# Altium footprint library DANCE_LIB_REV2.PcbLib: 146 footprints (part 6 of 10)
Each footprint in its own frame and in the unit in brackets; x right, y up, seen from the top. Pads: shape width x height; smd on the part's side, far side on the other; paste and mask are expansions set on the pad; w line width, h text height; cw(c..) or ccw(c..) is an arc to the next point about the centre after c.
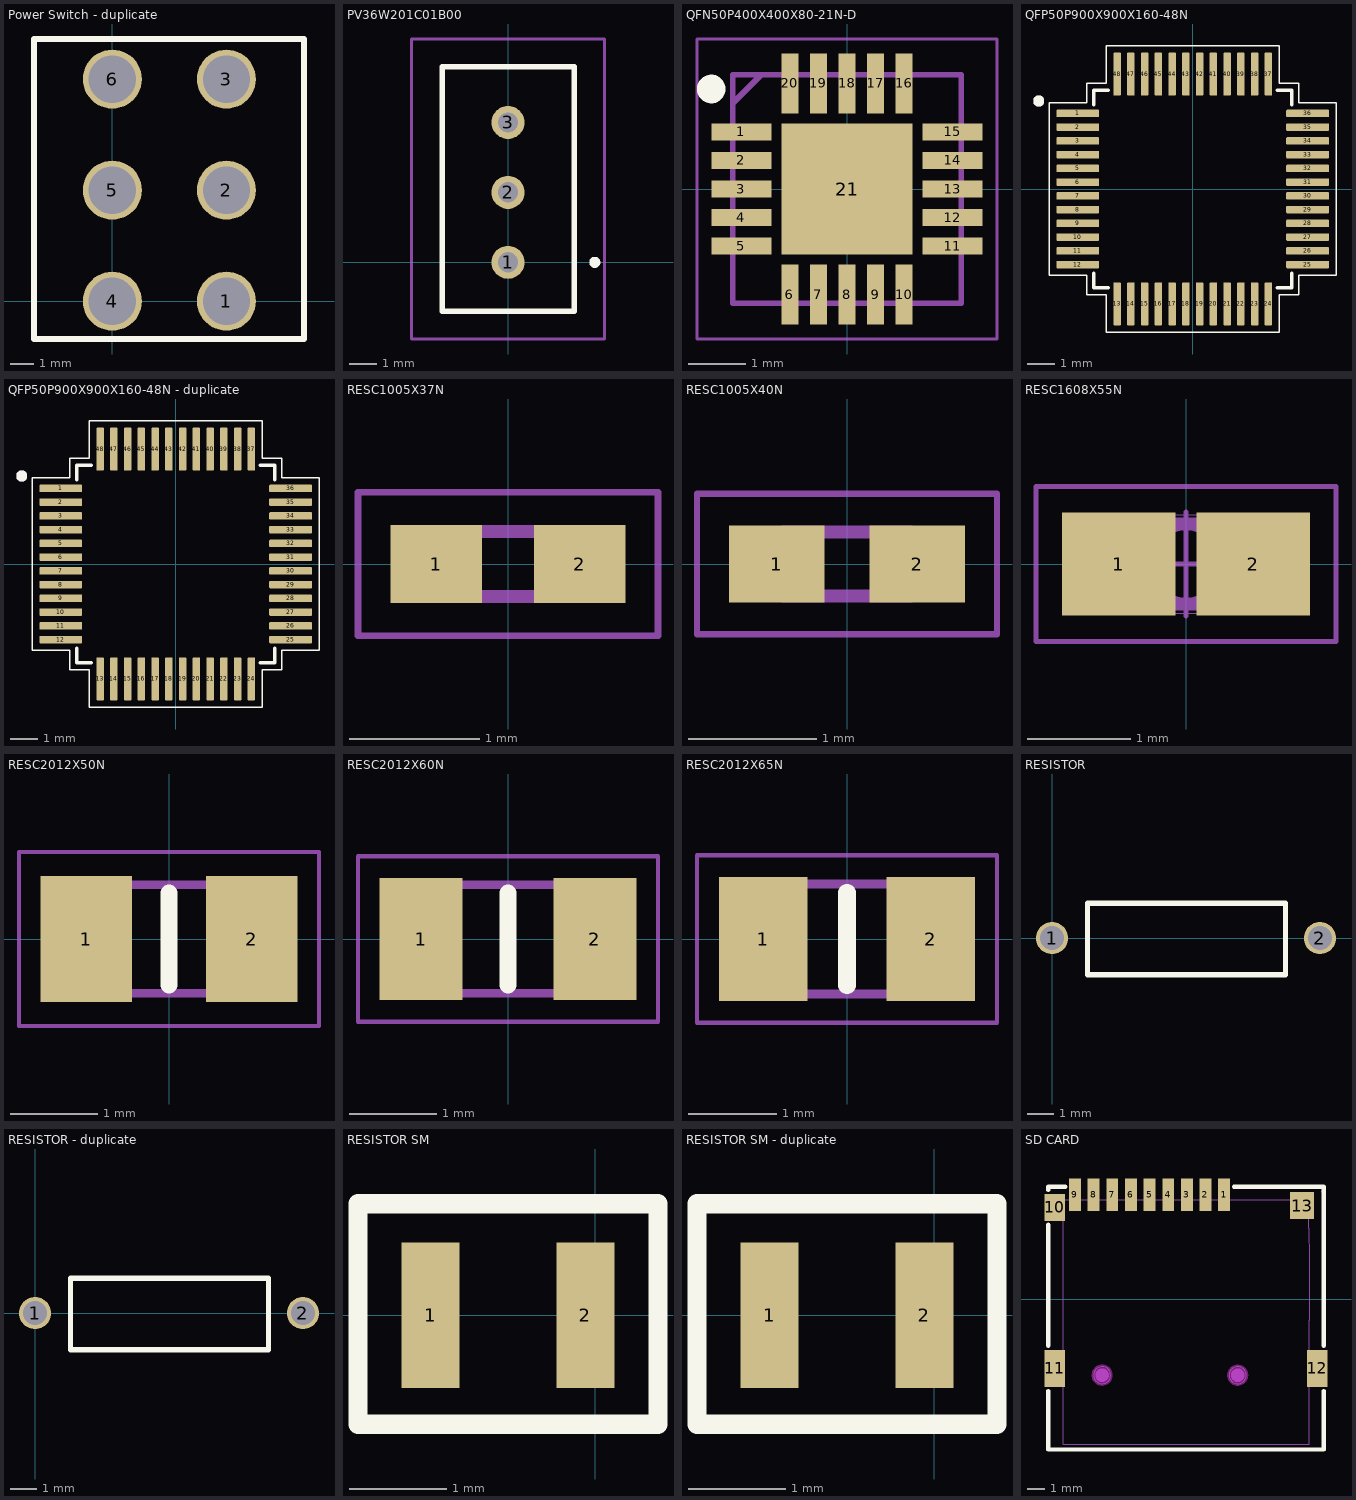
[diagram p5: the footprints below, top view; thin cyan lines are the x and y axes]

## Power Switch - duplicate [mm]
pads (6):
  round 2.5 hole 2: 1(4.83,0) 2(4.83,4.7) 3(4.83,9.4) 4(0,0) 5(0,4.7) 6(0,9.4)
Top Overlay:
  lines w0.254: -3.315,-1.6 -3.315,11.1 8.115,11.1 8.115,-1.6 -3.315,-1.6

## PV36W201C01B00 [mm]
pads (3):
  round 1.2 hole 0.74: 1(0,0) 2(0,2.54) 3(0,5.08)
Top Overlay:
  lines w0.2: -2.389,-1.784 -2.389,7.11 2.41,7.11 2.41,-1.784 -2.389,-1.784 ; 3.151,-0.1 ccw(c3.151,0) 3.151,0.1 ccw(c3.151,0) 3.151,-0.1
Mechanical 13:
  lines w0.1: -2.389,-1.784 -2.389,7.11 2.41,7.11 2.41,-1.784 -2.389,-1.784
Mechanical 15:
  lines w0.1: -3.5,-2.784 -3.5,8.11 3.5,8.11 3.5,-2.784 -3.5,-2.784
3D body "PV36W104C01B00.stp": height 9.33, standoff -9.94, extent -2.41,-2.105 2.42,7.425

## QFN50P400X400X80-21N-D [mm]
pads (21):
  rect 1.05x0.3 smd: 1(-1.85,1) 2(-1.85,0.5) 3(-1.85,0) 4(-1.85,-0.5) 5(-1.85,-1) 11(1.85,-1) 12(1.85,-0.5) 13(1.85,0) 14(1.85,0.5) 15(1.85,1)
  rect 0.3x1.05 smd: 6(-1,-1.85) 7(-0.5,-1.85) 8(0,-1.85) 9(0.5,-1.85) 10(1,-1.85) 16(1,1.85) 17(0.5,1.85) 18(0,1.85) 19(-0.5,1.85) 20(-1,1.85)
  rect 2.3x2.3 smd: 21(0,0)
Top Overlay:
  circle w0.25: c-2.375,1.75 r0.125
Mechanical 13:
  lines w0.1: -2,1.5 -1.5,2 ; -2,-2 -2,2 2,2 2,-2 -2,-2
Mechanical 15:
  lines w0.05: -2.625,-2.625 -2.625,2.625 2.625,2.625 2.625,-2.625 -2.625,-2.625
3D body "ADG788BCPZ.stp": height 0.8, standoff 0, extent -2.05,-2.05 2.05,2.05

## QFP50P900X900X160-48N [mm]
pads (48):
  rrect30% 1.56x0.28 smd: 1(-4.18,2.75) 2(-4.18,2.25) 3(-4.18,1.75) 4(-4.18,1.25) 5(-4.18,0.75) 6(-4.18,0.25) 7(-4.18,-0.25) 8(-4.18,-0.75) 9(-4.18,-1.25) 10(-4.18,-1.75) 11(-4.18,-2.25) 12(-4.18,-2.75) 25(4.18,-2.75) 26(4.18,-2.25) 27(4.18,-1.75) 28(4.18,-1.25) 29(4.18,-0.75) 30(4.18,-0.25) 31(4.18,0.25) 32(4.18,0.75) 33(4.18,1.25) 34(4.18,1.75) 35(4.18,2.25) 36(4.18,2.75)
  rrect30% 0.28x1.56 smd: 13(-2.75,-4.18) 14(-2.25,-4.18) 15(-1.75,-4.18) 16(-1.25,-4.18) 17(-0.75,-4.18) 18(-0.25,-4.18) 19(0.25,-4.18) 20(0.75,-4.18) 21(1.25,-4.18) 22(1.75,-4.18) 23(2.25,-4.18) 24(2.75,-4.18) 37(2.75,4.18) 38(2.25,4.18) 39(1.75,4.18) 40(1.25,4.18) 41(0.75,4.18) 42(0.25,4.18) 43(-0.25,4.18) 44(-0.75,4.18) 45(-1.25,4.18) 46(-1.75,4.18) 47(-2.25,4.18) 48(-2.75,4.18)
Top Overlay:
  circle w0.2: c-5.6,3.2 r0.1
  lines w0.05: -5.21,-3.14 -5.21,3.14 -3.85,3.14 -3.85,3.85 -3.14,3.85 -3.14,5.21 3.14,5.21 3.14,3.85 3.85,3.85 3.85,3.14 5.21,3.14 5.21,-3.14 3.85,-3.14 3.85,-3.85 3.14,-3.85 3.14,-5.21 -3.14,-5.21 -3.14,-3.85 -3.85,-3.85 -3.85,-3.14 -5.21,-3.14
  lines w0.127: -3.6,-3.07 -3.6,-3.6 -3.07,-3.6 ; -3.6,3.07 -3.6,3.6 -3.07,3.6 ; 3.07,-3.6 3.6,-3.6 3.6,-3.07 ; 3.07,3.6 3.6,3.6 3.6,3.07
Mechanical 13:
  circle w0.2: c-5.6,3.2 r0.1
  lines w0: -3.505,0.635 -3.505,0.864

## QFP50P900X900X160-48N - duplicate [mm]
pads (48):
  rrect30% 1.56x0.28 smd: 1(-4.18,2.75) 2(-4.18,2.25) 3(-4.18,1.75) 4(-4.18,1.25) 5(-4.18,0.75) 6(-4.18,0.25) 7(-4.18,-0.25) 8(-4.18,-0.75) 9(-4.18,-1.25) 10(-4.18,-1.75) 11(-4.18,-2.25) 12(-4.18,-2.75) 25(4.18,-2.75) 26(4.18,-2.25) 27(4.18,-1.75) 28(4.18,-1.25) 29(4.18,-0.75) 30(4.18,-0.25) 31(4.18,0.25) 32(4.18,0.75) 33(4.18,1.25) 34(4.18,1.75) 35(4.18,2.25) 36(4.18,2.75)
  rrect30% 0.28x1.56 smd: 13(-2.75,-4.18) 14(-2.25,-4.18) 15(-1.75,-4.18) 16(-1.25,-4.18) 17(-0.75,-4.18) 18(-0.25,-4.18) 19(0.25,-4.18) 20(0.75,-4.18) 21(1.25,-4.18) 22(1.75,-4.18) 23(2.25,-4.18) 24(2.75,-4.18) 37(2.75,4.18) 38(2.25,4.18) 39(1.75,4.18) 40(1.25,4.18) 41(0.75,4.18) 42(0.25,4.18) 43(-0.25,4.18) 44(-0.75,4.18) 45(-1.25,4.18) 46(-1.75,4.18) 47(-2.25,4.18) 48(-2.75,4.18)
Top Overlay:
  circle w0.2: c-5.6,3.2 r0.1
  lines w0.05: -5.21,-3.14 -5.21,3.14 -3.85,3.14 -3.85,3.85 -3.14,3.85 -3.14,5.21 3.14,5.21 3.14,3.85 3.85,3.85 3.85,3.14 5.21,3.14 5.21,-3.14 3.85,-3.14 3.85,-3.85 3.14,-3.85 3.14,-5.21 -3.14,-5.21 -3.14,-3.85 -3.85,-3.85 -3.85,-3.14 -5.21,-3.14
  lines w0.127: -3.6,-3.07 -3.6,-3.6 -3.07,-3.6 ; -3.6,3.07 -3.6,3.6 -3.07,3.6 ; 3.07,-3.6 3.6,-3.6 3.6,-3.07 ; 3.07,3.6 3.6,3.6 3.6,3.07
Mechanical 13:
  circle w0.2: c-5.6,3.2 r0.1
  lines w0: -3.505,0.635 -3.505,0.864

## RESC1005X37N [mm]
pads (2):
  rect 0.7x0.6 smd: 1(-0.55,0) 2(0.55,0)
Mechanical 13:
  lines w0.1: -0.5,-0.25 -0.5,0.25 0.5,0.25 0.5,-0.25 -0.5,-0.25
Mechanical 15:
  lines w0.05: -1.15,-0.55 -1.15,0.55 1.15,0.55 1.15,-0.55 -1.15,-0.55
3D body "MCS0402PD1002DE500.stp": height 0.32, standoff 0, extent -0.5,-0.25 0.5,0.25

## RESC1005X40N [mm]
pads (2):
  rect 0.75x0.6 smd: 1(-0.55,0) 2(0.55,0)
Mechanical 13:
  lines w0.1: -0.5,-0.25 -0.5,0.25 0.5,0.25 0.5,-0.25 -0.5,-0.25
Mechanical 15:
  lines w0.05: -1.175,-0.55 -1.175,0.55 1.175,0.55 1.175,-0.55 -1.175,-0.55
3D body "RC0402FR-07_47RL.stp": height 0.4, standoff 0, extent -0.5,-0.25 0.5,0.25

## RESC1608X55N [mm]
pads (2):
  rect 1.1x1 smd: 1(-0.65,0) 2(0.65,0)
Mechanical 13:
  lines w0.1: -0.8,-0.4 -0.8,0.4 0.8,0.4 0.8,-0.4 -0.8,-0.4
Mechanical 15:
  circle w0.05: c0,0 r0.35
  lines w0.001: -0.85,-0.475 -0.85,0.475 0.85,0.475 0.85,-0.475 -0.85,-0.475
  lines w0.05: -0.5,0 0.5,0 ; 0,-0.5 0,0.5 ; -1.45,-0.75 -1.45,0.75 1.45,0.75 1.45,-0.75 -1.45,-0.75
3D body "RC0603FR-07750KL.stp": height 0.55, standoff 0, extent -0.8,-0.4 0.8,0.4

## RESC2012X50N [mm]
pads (2):
  rect 1.05x1.45 smd: 1(-0.95,0) 2(0.95,0)
Top Overlay:
  lines w0.2: 0,-0.525 0,0.525
Mechanical 13:
  lines w0.1: -1,-0.625 -1,0.625 1,0.625 1,-0.625 -1,-0.625
Mechanical 15:
  lines w0.05: -1.725,-1 -1.725,1 1.725,1 1.725,-1 -1.725,-1
3D body "RG2012P-105-B-T5.stp": height 0.5, standoff 0, extent -1,-0.625 1,0.625

## RESC2012X60N [mm]
pads (2):
  rect 0.95x1.4 smd: 1(-1,0) 2(1,0)
Top Overlay:
  lines w0.2: 0,-0.525 0,0.525
Mechanical 13:
  lines w0.1: -1,-0.625 -1,0.625 1,0.625 1,-0.625 -1,-0.625
Mechanical 15:
  lines w0.05: -1.725,-0.95 -1.725,0.95 1.725,0.95 1.725,-0.95 -1.725,-0.95
3D body "RK73H2ATTD6802F.stp": height 0.6, standoff 0, extent -1,-0.625 1,0.625

## RESC2012X65N [mm]
pads (2):
  rect 1x1.4 smd: 1(-0.95,0) 2(0.95,0)
Top Overlay:
  lines w0.2: 0,-0.525 0,0.525
Mechanical 13:
  lines w0.1: -1,-0.625 -1,0.625 1,0.625 1,-0.625 -1,-0.625
Mechanical 15:
  lines w0.05: -1.7,-0.95 -1.7,0.95 1.7,0.95 1.7,-0.95 -1.7,-0.95
3D body "RMCF0805FT35K7.stp": height 0.5, standoff 0, extent -1.004,-0.626 0.996,0.624

## RESISTOR [mm]
pads (2):
  round 1.2 hole 0.9: 1(0,0) 2(10,0)
Top Overlay:
  lines w0.2: 1.325,-1.367 1.325,1.3 8.716,1.3 8.716,-1.367 1.325,-1.367

## RESISTOR - duplicate [mm]
pads (2):
  round 1.2 hole 0.9: 1(0,0) 2(10,0)
Top Overlay:
  lines w0.2: 1.325,-1.367 1.325,1.3 8.716,1.3 8.716,-1.367 1.325,-1.367

## RESISTOR SM [mm]
pads (2):
  rect 0.6x1.5 smd: 1(-1.7,0) 2(-0.1,0)
Top Overlay:
  lines w0.2: -2.45,-1.125 0.65,-1.125 0.65,1.15 -2.45,1.15 -2.45,-1.125

## RESISTOR SM - duplicate [mm]
pads (2):
  rect 0.6x1.5 smd: 1(-1.7,0) 2(-0.1,0)
Top Overlay:
  lines w0.2: -2.45,-1.125 0.65,-1.125 0.65,1.15 -2.45,1.15 -2.45,-1.125

## SD CARD [mm]
pads (13):
  rect 0.7x1.9 smd: 1(-9.058,6.163) 2(-10.158,6.163) 3(-11.258,6.163) 4(-12.358,6.163) 5(-13.458,6.163) 6(-14.558,6.163) 7(-15.658,6.163) 8(-16.758,6.163) 9(-17.858,6.163)
  rect 1.2x1.6 smd: 10(-19.058,5.413)
  rect 1.2x2.2 smd: 11(-19.058,-4.087) 12(-3.558,-4.087)
  rect 1.4x1.6 smd: 13(-4.458,5.513)
Top Overlay:
  lines w0.254: -19.436,-5.418 -19.436,-8.868 -3.18,-8.868 -3.18,-5.418 ; -19.436,-2.756 -19.436,4.382 ; -19.436,6.444 -19.436,6.626 -18.439,6.626 ; -8.477,6.626 -3.18,6.626 -3.18,-2.756
Keep-Out Layer:
  board cut-out: -15.758,-4.487 -15.759,-4.388 -15.836,-4.207 -15.977,-4.068 -16.159,-3.993 -16.357,-3.993 -16.539,-4.068 -16.679,-4.207 -16.757,-4.388 -16.758,-4.487 -16.757,-4.586 -16.679,-4.767 -16.539,-4.906 -16.356,-4.981 -16.159,-4.981 -15.977,-4.906 -15.836,-4.767 -15.759,-4.586
  board cut-out: -7.758,-4.489 -7.759,-4.391 -7.836,-4.209 -7.977,-4.071 -8.159,-3.996 -8.357,-3.996 -8.539,-4.071 -8.679,-4.209 -8.757,-4.391 -8.758,-4.49 -8.757,-4.588 -8.679,-4.77 -8.539,-4.908 -8.356,-4.983 -8.159,-4.983 -7.977,-4.908 -7.836,-4.77 -7.759,-4.588
Keep-Out Layer:
  circle w0.025: c-16.258,-4.487 r0.5
  circle w0.254: c-16.258,-4.487 r0.5
  circle w0.025: c-8.258,-4.489 r0.5
  circle w0.254: c-8.258,-4.489 r0.5
Mechanical 1:
  circle w0.025: c-16.258,-4.487 r0.5
  circle w0.025: c-8.258,-4.489 r0.5
Mechanical 6:
  circle w0.4: c-16.258,-4.487 r0.2
  circle w0.4: c-8.258,-4.489 r0.2
Mechanical 15:
  region: -3.198,6.349 -3.198,6.374 -3.233,6.409 -3.283,6.409 -3.318,6.374 -3.318,6.349 -3.318,6.325 -3.283,6.289 -3.233,6.289 -3.198,6.325
  region: -18.008,6.35 -17.708,6.35 -17.708,5.85 -18.008,5.85
  region: -16.908,6.35 -16.608,6.35 -16.608,5.85 -16.908,5.85
  region: -15.808,6.35 -15.508,6.35 -15.508,5.85 -15.808,5.85
  region: -14.708,6.35 -14.408,6.35 -14.408,5.85 -14.708,5.85
  region: -13.608,6.35 -13.308,6.35 -13.308,5.85 -13.608,5.85
  region: -12.508,6.35 -12.208,6.35 -12.208,5.85 -12.508,5.85
  region: -11.408,6.35 -11.108,6.35 -11.108,5.85 -11.408,5.85
  region: -10.308,6.35 -10.008,6.35 -10.008,5.85 -10.308,5.85
  region: -9.208,6.35 -8.908,6.35 -8.908,5.85 -9.208,5.85
  region: -19.394,-3.487 -18.544,-3.487 -18.544,-4.687 -19.394,-4.687
  region: -4.108,-3.462 -3.258,-3.462 -3.258,-4.662 -4.108,-4.662
  region: -19.394,5.913 -18.544,5.913 -18.544,4.913 -19.394,4.913
  region: -4.033,6.013 -4.033,5.013 -4.883,5.013 -4.883,6.013
  lines w0.051: -18.547,-8.561 -18.547,5.864 -11.208,5.864 -7.539,5.864 -4.047,5.864 -4.057,4.178 -4.041,2.366 -4.034,-1.234 -4.047,-8.561 -18.547,-8.561